# Altium footprint library 2021-07-06_21-38-52.PcbLib: 1 footprints
Each footprint in its own frame and in the unit in brackets; x right, y up, seen from the top. Pads: shape width x height; smd on the part's side, far side on the other; paste and mask are expansions set on the pad; w line width, h text height; cw(c..) or ccw(c..) is an arc to the next point about the centre after c.
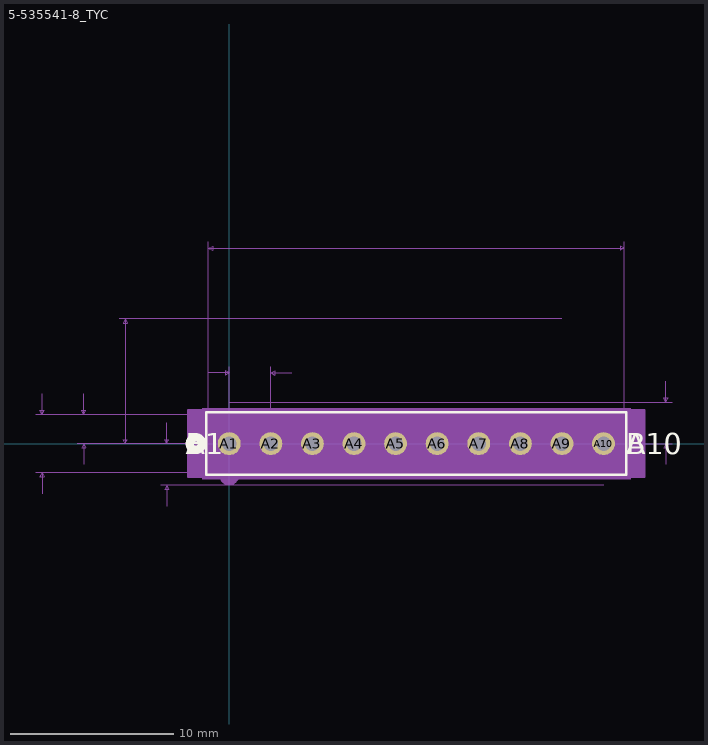
[diagram p0: the footprint, top view; thin cyan lines are the x and y axes]

## 5-535541-8_TYC [mil]
pads (10):
  round 55 hole 35 mask+0: A1(0,0) A2(100,0) A3(200,0) A4(300,0) A5(400,0) A6(500,0) A7(600,0) A8(700,0) A9(800,0) A10(900,0)
Top Overlay:
  circle w20: c-80,0 r15
  lines w6: -55,-75 955,-75 955,75 -55,75 -55,-75
  text "A1" at -105,-25 h50
  text "B1" at -105,-25 h50
  text "A10" at 955,-25 h50
  text "B10" at 955,-25 h50
Bottom Overlay:
  circle w20: c-80,0 r15
  text "A1" at -55,-25 h50
  text "B1" at -55,-25 h50
  text "A10" at 1030,-25 h50
  text "B10" at 1030,-25 h50
Mechanical 5:
  region: -65,85 965,85 965,-85 -65,-85
Mechanical 7:
  lines w1: -465,-70 -50,-70 ; -465,70 -50,70 ; -450,-120 -450,-70 ; -450,120 -450,70 ; -365,0 450,0 ; -365,70 -50,70 ; -350,-50 -350,0 ; -350,120 -350,70 ; -265,0 450,0 ; -265,300 800,300 ; -165,-100 900,-100 ; -165,0 450,0 ; -150,-150 -150,-100 ; -150,50 -150,0 ; -50,170 0,170 ; -50,485 -50,70 ; 0,100 1065,100 ; 0,185 0,0 1065,0 ; 100,0 100,185 ; 150,170 100,170 ; 950,70 950,485 ; 1050,-50 1050,0 ; 1050,150 1050,100 ; -450,-70 -455,-80 -445,-80 -450,-70 ; -450,70 -455,80 -445,80 -450,70 ; -350,0 -355,-10 -345,-10 -350,0 ; -350,70 -355,80 -345,80 -350,70 ; -250,0 -250,300 ; -250,0 -255,10 -245,10 -250,0 ; -250,300 -255,290 -245,290 -250,300 ; -150,-100 -155,-110 -145,-110 -150,-100 ; -150,0 -155,10 -145,10 -150,0 ; -50,470 950,470 ; -50,470 -40,475 -40,465 -50,470 ; 0,170 -10,175 -10,165 0,170 ; 100,170 110,175 110,165 100,170 ; 950,470 940,475 940,465 950,470 ; 1050,0 1045,-10 1055,-10 1050,0 ; 1050,100 1045,110 1055,110 1050,100
  text "Default Padstyle: EX55Y55D35P" at 87.5,-220 h50
  text "First Mounting Padstyle: EX80Y80D50P" at 0,-295 h50
  text "Second Mounting Padstyle: EX70Y70D70P" at -12.5,-370 h50
  text "Third Mounting Padstyle: EX70Y70D70P" at 0,-445 h50
  text "Left Mounting Padstyle: EX60Y60D30P" at 12.5,-520 h50
  text "Right Mounting Padstyle: EX60Y60D30P" at 0,-595 h50
  text "Alt 1 Padstyle: OX60Y90D30P" at 112.5,-670 h50
  text "Alt 2 Padstyle: OX90Y60D30P" at 112.5,-745 h50
  text "0.1in/2.54mm" at 100,190 h25
  text "1in/25.4mm" at 387.5,490 h25
  text "0.1in/2.54mm" at 1070,-12.5 h25
  text "-0.1in/-2.54mm" at -345,-62.5 h25
  text "0.3in/7.62mm" at -420,137.5 h25
  text "0.07in/1.778mm" at -545,22.5 h25
  text "0.14in/3.556mm" at -645,22.5 h25
Mechanical 13:
  circle w20: c0,-75 r15
  lines w1: -50,-70 950,-70 950,70 -50,70 -50,-70
  text "A1" at -105,-25 h50
  text "B1" at -105,-25 h50
  text "A10" at 955,-25 h50
  text "B10" at 955,-25 h50
Mechanical 15:
  region: 998,80 -98,80 -98,-80 998,-80
  region: 950,70 -50,70 -50,-70 950,-70
  lines w6: -98,-80 -98,80 998,80 998,-80 -98,-80
3D body: height 10, standoff 0, extent 0,0 10,10